# Altium integrated library LM2576S-ADJ_NOPB.IntLib: 1 symbol
Pins are listed as number, name and electrical type; pins without a type are passive.

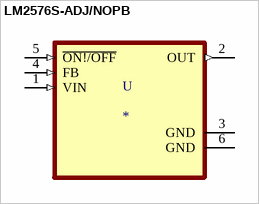
[diagram p0: symbol LM2576S-ADJ/NOPB]

## LM2576S-ADJ/NOPB
designator U
SIMPLE SWITCHER&#174; 40V, 3A Low Component Count Step-Down Regulator; MP: LM2576S-ADJ/NOPB; MF: Texas Instruments; Package: TO-263-5 Texas Instruments; DigiKey-Purchase-URL: https://snapeda.com/shop?store=DigiKey&id=214896; Value: *; Price: None; Texas_Instruments-Purchase-URL: https://snapeda.com/shop?store=Texas+Instruments&id=214896; Availability: Unavailable; SnapEDA_Link: https://www.snapeda.com/parts/LM2576S-ADJ/NOPB/Texas%20Instruments/view-part/214896/?ref=snap; Mouser-Purchase-URL: https://snapeda.com/shop?store=Mouser&id=214896
footprint VREG_TPS79625KTTR
pins: 1 VIN (in), 2 OUT (out), 3 GND (power), 4 FB (in), 5 ~{ON!/OFF} (in), 6 GND (power)